# EAGLE library part VOLTAGESHIFT (library ws2812b)
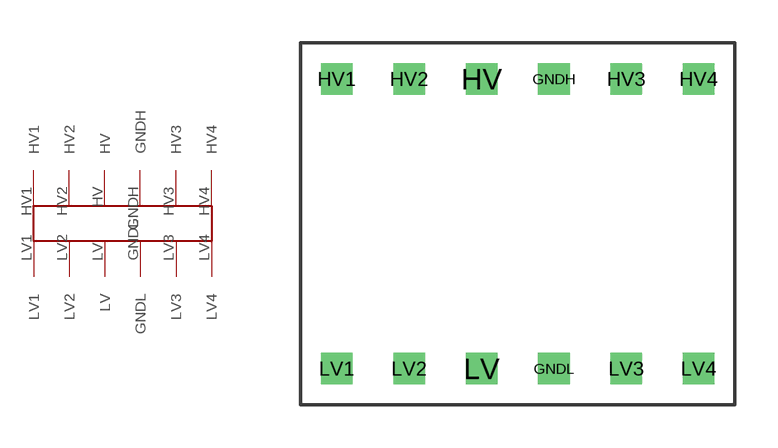
[diagram p1: symbol with the pads of VOLTAGESHIFT; footprint VOLTAGESHIFT]

Designator prefix -

## VOLTAGESHIFT  [VOLTAGESHIFT]
GNDH  GNDH
GNDL  GNDL
HV  HV
HV1  HV1
HV2  HV2
HV3  HV3
HV4  HV4
LV  LV
LV1  LV1
LV2  LV2
LV3  LV3
LV4  LV4

## Footprint VOLTAGESHIFT (pad centres in mm)
drill 0.6 square: GNDH 1.27,5.08; GNDL 1.27,-5.08; HV -1.27,5.08; HV1 -6.35,5.08; HV2 -3.81,5.08; HV3 3.81,5.08; HV4 6.35,5.08; LV -1.27,-5.08; LV1 -6.35,-5.08; LV2 -3.81,-5.08; LV3 3.81,-5.08; LV4 6.35,-5.08